# Altium footprint library SamacSys.PcbLib: 28 footprints (part 2 of 2)
Each footprint in its own frame and in the unit in brackets; x right, y up, seen from the top. Pads: shape width x height; smd on the part's side, far side on the other; paste and mask are expansions set on the pad; w line width, h text height; cw(c..) or ccw(c..) is an arc to the next point about the centre after c.
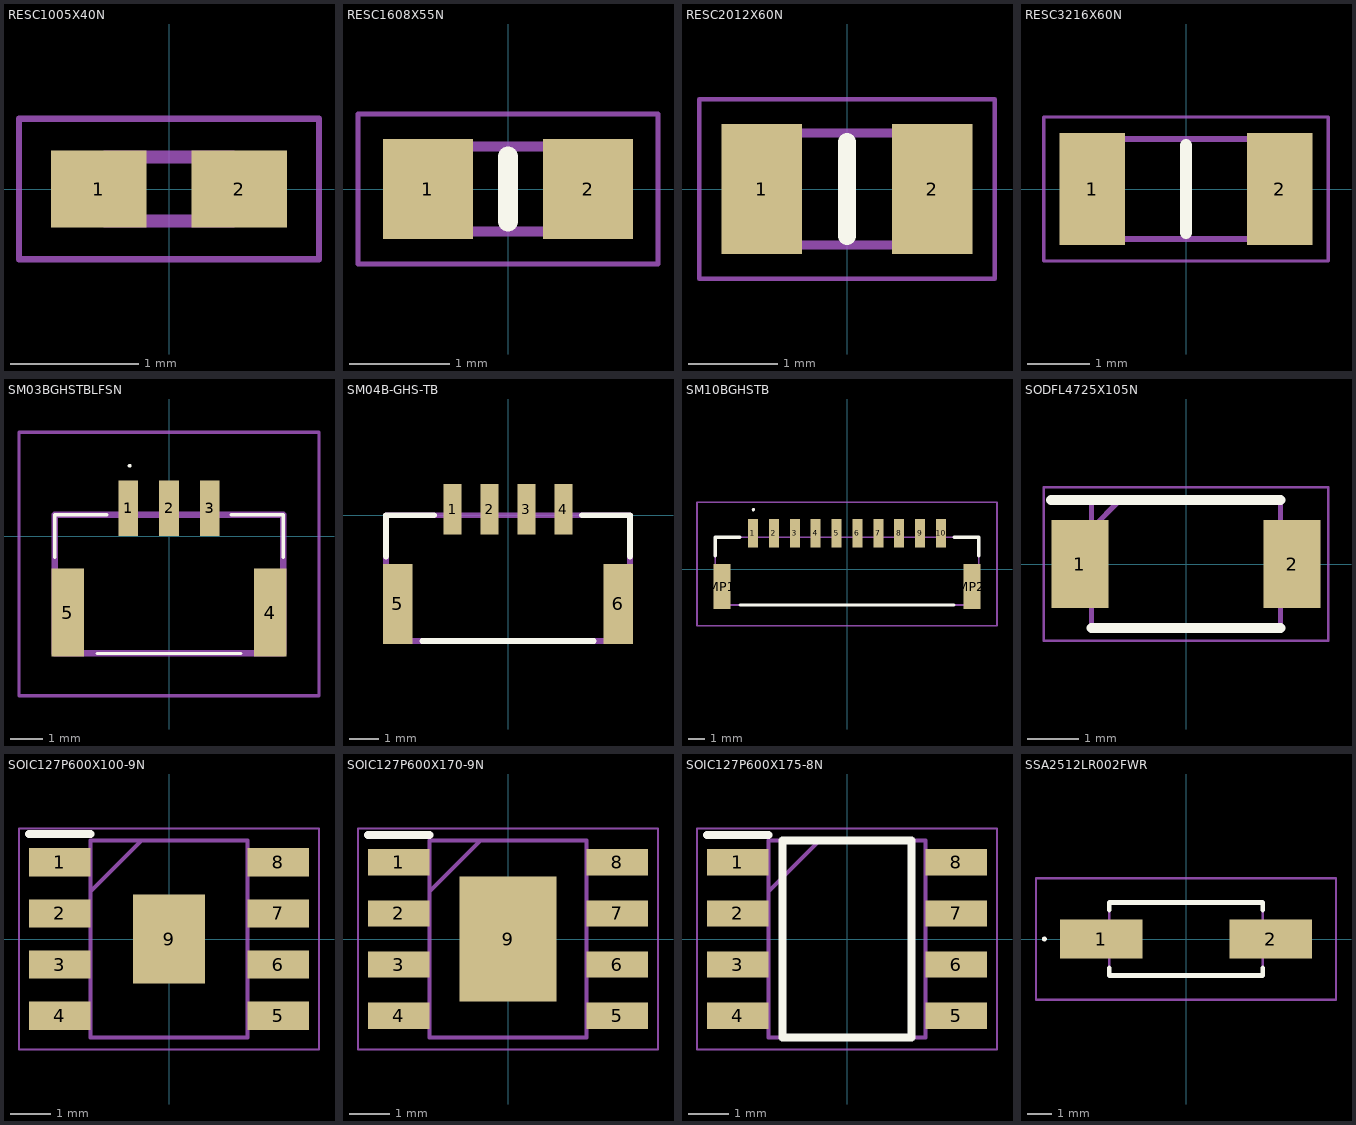
[diagram p1: the footprints below, top view; thin cyan lines are the x and y axes]

## RESC1005X40N [mm]
pads (2):
  rect 0.75x0.6 smd: 1(-0.55,0) 2(0.55,0)
Mechanical 13:
  lines w0.1: -0.5,-0.25 -0.5,0.25 0.5,0.25 0.5,-0.25 -0.5,-0.25
Mechanical 15:
  lines w0.05: -1.175,-0.55 -1.175,0.55 1.175,0.55 1.175,-0.55 -1.175,-0.55
3D body "CRCW04026M65FKED.stp": height 0.35, standoff 0, extent -0.5,-0.25 0.5,0.25

## RESC1608X55N [mm]
pads (2):
  rect 0.9x1 smd: 1(-0.8,0) 2(0.8,0)
Top Overlay:
  lines w0.2: 0,-0.325 0,0.325
Mechanical 13:
  lines w0.1: -0.8,-0.425 -0.8,0.425 0.8,0.425 0.8,-0.425 -0.8,-0.425
Mechanical 15:
  lines w0.05: -1.5,-0.75 -1.5,0.75 1.5,0.75 1.5,-0.75 -1.5,-0.75
3D body "ERJ-3EKF1001V.stp": height 0.45, standoff 0, extent -0.8,-0.4 0.8,0.4

## RESC2012X60N [mm]
pads (2):
  rect 0.9x1.45 smd: 1(-0.95,0) 2(0.95,0)
Top Overlay:
  lines w0.2: 0,-0.525 0,0.525
Mechanical 13:
  lines w0.1: -1,-0.625 -1,0.625 1,0.625 1,-0.625 -1,-0.625
Mechanical 15:
  lines w0.05: -1.65,-1 -1.65,1 1.65,1 1.65,-1 -1.65,-1
3D body "CRCW08054K70FKEAC.stp": height 0.6, standoff 0, extent -1,-0.625 1,0.625

## RESC3216X60N [mm]
pads (2):
  rect 1.05x1.8 smd: 1(-1.5,0) 2(1.5,0)
Top Overlay:
  lines w0.2: 0,-0.7 0,0.7
Mechanical 13:
  lines w0.1: -1.575,-0.8 -1.575,0.8 1.575,0.8 1.575,-0.8 -1.575,-0.8
Mechanical 15:
  lines w0.05: -2.275,-1.15 -2.275,1.15 2.275,1.15 2.275,-1.15 -2.275,-1.15
3D body "CRCW1206287KFKEA.stp": height 0.55, standoff 0, extent -1.42,-0.74 1.78,0.86

## SM03BGHSTBLFSN [mm]
pads (5):
  rect 0.6x1.7 smd: 1(-1.25,0.85) 2(0,0.85) 3(1.25,0.85)
  rect 1x2.7 smd: 4(3.1,-2.35) 5(-3.1,-2.35)
Top Overlay:
  lines w0.058: -1.237,2.156 ccw(c-1.208,2.156) -1.179,2.156 ccw(c-1.208,2.156) -1.237,2.156
  lines w0.1: -3.5,-0.656 -3.5,0.65 -1.907,0.65 ; -2.2,-3.6 2.2,-3.6 ; 1.907,0.65 3.5,0.65 3.5,-0.656
Mechanical 13:
  lines w0.2: -3.5,-3.6 3.5,-3.6 3.5,0.65 -3.5,0.65 -3.5,-3.6
Mechanical 15:
  lines w0.1: -4.6,-4.901 4.6,-4.901 4.6,3.185 -4.6,3.185 -4.6,-4.901
3D body "SM03B-GHS-TB_LF__SN_.stp": height 4.45, standoff 0, extent -3.5,-3.555 3.5,1.295

## SM04B-GHS-TB [mm]
pads (6):
  rect 0.6x1.7 smd: 1(-1.875,0.2) 2(-0.625,0.2) 3(0.625,0.2) 4(1.875,0.2)
  rect 1x2.7 smd: 5(-3.725,-3) 6(3.725,-3)
Top Overlay:
  lines w0.2: -4.125,-1.4 -4.125,0 -2.5,0 ; -2.9,-4.25 2.9,-4.25 ; 2.5,0 4.125,0 4.125,-1.4
Mechanical 13:
  lines w0.2: -4.125,-4.25 -4.125,0 4.125,0 4.125,-4.25 -4.125,-4.25
3D body "SM04B-GHS-TB_LF__SN_.stp": height 4.45, standoff 0, extent -4.12,-4.125 4.13,0.725

## SM10BGHSTB [mm]
pads (12):
  rect 0.6x1.7 smd: 1(-5.625,2.15) 2(-4.375,2.15) 3(-3.125,2.15) 4(-1.875,2.15) 5(-0.625,2.15) 6(0.625,2.15) 7(1.875,2.15) 8(3.125,2.15) 9(4.375,2.15) 10(5.625,2.15)
  rect 1x2.7 smd: MP1(-7.475,-1.05) MP2(7.475,-1.05)
Top Overlay:
  lines w0.1: -5.6,3.5 ccw(c-5.6,3.55) -5.6,3.6 ccw(c-5.6,3.55) -5.6,3.5
  lines w0.2: -7.875,0.8 -7.875,1.9 -6.4,1.9 ; -6.4,-2.15 6.4,-2.15 ; 6.4,1.9 7.875,1.9 7.875,0.8
Mechanical 13:
  lines w0.1: -7.875,-2.15 -7.875,1.9 7.875,1.9 7.875,-2.15 -7.875,-2.15
Mechanical 15:
  lines w0.1: -8.975,-3.4 -8.975,4 8.975,4 8.975,-3.4 -8.975,-3.4
3D body "SM10B-GHS-TB.stp": height 4.35, standoff 0, extent -7.875,-2.3 7.875,2.94

## SODFL4725X105N [mm]
pads (2):
  rect 1.12x1.72 smd: 1(-2.075,0) 2(2.075,0)
Top Overlay:
  lines w0.2: -2.635,1.25 1.85,1.25 ; -1.85,-1.25 1.85,-1.25
Mechanical 13:
  lines w0.1: -1.85,0.69 -1.29,1.25 ; -1.85,-1.25 1.85,-1.25 1.85,1.25 -1.85,1.25 -1.85,-1.25
Mechanical 15:
  lines w0.05: -2.785,-1.5 2.785,-1.5 2.785,1.5 -2.785,1.5 -2.785,-1.5
3D body "RBR5LAM60ATFTR.stp": height 1.25, standoff -1.25, extent -2.35,0 2.35,0.95

## SOIC127P600X100-9N [mm]
pads (9):
  rect 1.525x0.7 smd: 1(-2.712,1.905) 2(-2.712,0.635) 3(-2.712,-0.635) 4(-2.712,-1.905) 5(2.712,-1.905) 6(2.712,-0.635) 7(2.712,0.635) 8(2.712,1.905)
  rect 1.8x2.2 smd: 9(0,0)
Top Overlay:
  lines w0.2: -3.475,2.605 -1.95,2.605
Mechanical 13:
  lines w0.1: -1.95,1.18 -0.68,2.45 ; -1.95,-2.45 1.95,-2.45 1.95,2.45 -1.95,2.45 -1.95,-2.45
Mechanical 15:
  lines w0.05: -3.725,-2.75 3.725,-2.75 3.725,2.75 -3.725,2.75 -3.725,-2.75
3D body "BD9G401EFJ-ME2.stp": height 1, standoff 0, extent -3,-2.45 3,2.45

## SOIC127P600X170-9N [mm]
pads (9):
  rect 1.525x0.65 smd: 1(-2.712,1.905) 2(-2.712,0.635) 3(-2.712,-0.635) 4(-2.712,-1.905) 5(2.712,-1.905) 6(2.712,-0.635) 7(2.712,0.635) 8(2.712,1.905)
  rect 2.4x3.1 smd: 9(0,0)
Top Overlay:
  lines w0.2: -3.475,2.58 -1.95,2.58
Mechanical 13:
  lines w0.1: -1.95,1.18 -0.68,2.45 ; -1.95,-2.45 1.95,-2.45 1.95,2.45 -1.95,2.45 -1.95,-2.45
Mechanical 15:
  lines w0.05: -3.725,-2.75 3.725,-2.75 3.725,2.75 -3.725,2.75 -3.725,-2.75
3D body "TPS54531DDAR.stp": height 1.57, standoff 0, extent -3,-2.45 3,2.45

## SOIC127P600X175-8N [mm]
pads (8):
  rect 1.525x0.65 smd: 1(-2.712,1.905) 2(-2.712,0.635) 3(-2.712,-0.635) 4(-2.712,-1.905) 5(2.712,-1.905) 6(2.712,-0.635) 7(2.712,0.635) 8(2.712,1.905)
Top Overlay:
  lines w0.2: -3.475,2.58 -1.95,2.58 ; -1.6,-2.45 1.6,-2.45 1.6,2.45 -1.6,2.45 -1.6,-2.45
Mechanical 13:
  lines w0.1: -1.95,1.18 -0.68,2.45 ; -1.95,-2.45 1.95,-2.45 1.95,2.45 -1.95,2.45 -1.95,-2.45
Mechanical 15:
  lines w0.05: -3.725,-2.75 3.725,-2.75 3.725,2.75 -3.725,2.75 -3.725,-2.75
3D body "NE555DR.stp": height 1.75, standoff 0, extent -3,-2.45 3,2.45

## SSA2512LR002FWR [mm]
pads (2):
  rect 3.4x1.6 smd: 1(-3.5,0) 2(3.5,0)
Top Overlay:
  lines w0.1: -5.9,0 ccw(c-5.85,0) -5.8,0 ccw(c-5.85,0) -5.9,0
  lines w0.2: -3.175,-1.2 -3.175,-1.51 3.175,-1.51 3.175,-1.2 ; -3.175,1.2 -3.175,1.51 3.175,1.51 3.175,1.2
Mechanical 13:
  lines w0.1: -3.175,-1.51 3.175,-1.51 3.175,1.51 -3.175,1.51 -3.175,-1.51
Mechanical 15:
  lines w0.1: -6.2,-2.51 6.2,-2.51 6.2,2.51 -6.2,2.51 -6.2,-2.51
3D body "SSA2512LR002FWR.stp": height 0.77, standoff 0, extent -5.04,-1.51 5.04,1.51